# EAGLE library part 62403021622 (library Wurth_Connectors_WR-WTB)
WR-WTB 2.00 mm Male Dual Row Vertical Shrouded Header w. positive locking KIND PROPERTIES: Pitch:2 mm Gender:Male MATERIAL PROPERTIES: Insulator Material :PBT Insulator Flammability Rating:UL94 V-0 Color:White Contact Material:Copper Alloy Contact Plating:Tin Contact Type:Stamped GENERAL INFORMATION Operating Temperature:-25 up to +85 °C Compliance: RoHS Working Voltage:250V (AC) Withstanding Voltage:1000V (AC) Contact Resistance:20 mΩ RISO:1000 MΩ CERTIFICATION UL Approval:E323964 PACKAGING PROPERTIES Packaging:Tube <https://katalog.we-online.com/media/images/v2/o33358v209%20Family_WR-WTB_6240xx21622.jpg> Details see: https://katalog.we-online.com/en/em/WTB_2_00_MALE_DUAL_ROW_VERTICAL_SHROUDED_HEADER_W_POSITIVE_LOCKING_6240XX21622 Updated by Yingchun,Shan 2019-11-08 2019 (C) Würth Elektronik
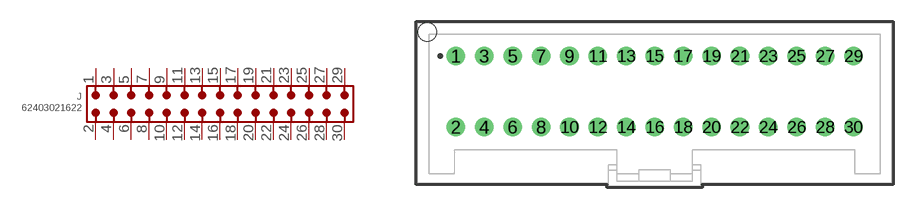
[diagram p132: symbol with the pads of 62403021622; footprint 62403021622]

Designator prefix J

## 62403021622 (CONTACT-RESISTANCE: 20mOhm; DATASHEET-URL: https://www.we-online.com/redexpert/spec/62403021622?ae; GENDER: Male; IR: 3A; L: 33.4mm; MOUNT: THT; PACKAGING: Tube; PART-NUMBER: 62403021622; PCB-CABLE-PANEL: PCB; PINS: 30; PITCH: 2mm; TYPE: Vertical; VALUE: 62403021622; WORKING-VOLTAGE: 250V(AC))  [62403021622]
1  1  pas
2  2  pas
3  3  pas
4  4  pas
5  5  pas
6  6  pas
7  7  pas
8  8  pas
9  9  pas
10  10  pas
11  11  pas
12  12  pas
13  13  pas
14  14  pas
15  15  pas
16  16  pas
17  17  pas
18  18  pas
19  19  pas
20  20  pas
21  21  pas
22  22  pas
23  23  pas
24  24  pas
25  25  pas
26  26  pas
27  27  pas
28  28  pas
29  29  pas
30  30  pas

## Footprint 62403021622 (pad centres in mm)
WR-WTB 2.00 mm Male Dual Row Vertical Shrouded Header w. positive locking,30 Pins
drill 0.8: 1 -14,3.3; 2 -14,-1.7; 3 -12,3.3; 4 -12,-1.7; 5 -10,3.3; 6 -10,-1.7; 7 -8,3.3; 8 -8,-1.7; 9 -6,3.3; 10 -6,-1.7; 11 -4,3.3; 12 -4,-1.7; 13 -2,3.3; 14 -2,-1.7; 15 0,3.3; 16 0,-1.7; 17 2,3.3; 18 2,-1.7; 19 4,3.3; 20 4,-1.7; 21 6,3.3; 22 6,-1.7; 23 8,3.3; 24 8,-1.7; 25 10,3.3; 26 10,-1.7; 27 12,3.3; 28 12,-1.7; 29 14,3.3; 30 14,-1.7
hole 1.3 at -16,5